# Altium schematic symbol library alex_resistor.SchLib: 130 symbols
Pins are listed as number, name and electrical type; pins without a type are passive.

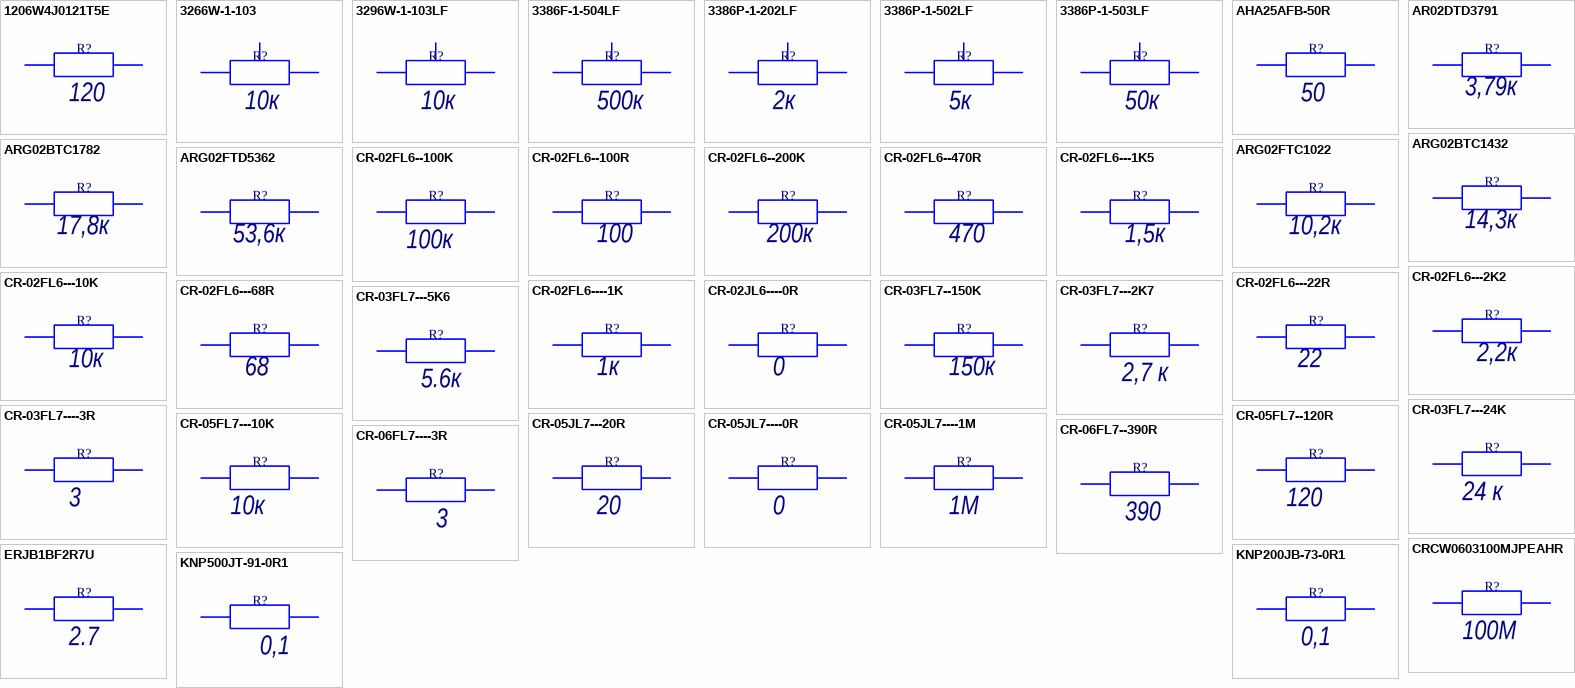
[diagram p0: symbols 1206W4J0121T5E to KNP500JT-91-0R1]

## 1206W4J0121T5E
designator R?, comment value 120  (hidden comment: Резистор 120 Ом ± 0,05% 0,25 Вт 200В -55...155 °C SMD-1206 1206W4J0121T5E "UNIOHM")
footprint R1206 (3216M)
pins: 1, 2

## 3266W-1-103
designator R?, comment value 10к  (hidden comment: Резистор подстроечный выводной 10 кОм ± 1% 12 оборотов 500мВт 3266W-1-103 -55°C...+125°C "Bochen")
footprint R_TRIM_3266_BOCHEN
pins: 1, 2, 3

## 3296W-1-103LF
designator R?, comment value 10к  (hidden comment: Резистор подстроечный выводной 10 кОм ± 1% 500мВт 3296W-1-103LF -55°C...+125°C "Bourns")
footprint R_TRIMM_3296
pins: 1, 2, 3

## 3386F-1-504LF
designator R?, comment value 500к  (hidden comment: Резистор подстроечный выводной 500 кОм ± 1% 500мВт 3386F-1-504LF -55°C...+125°C "Bourns")
footprint R_TRIMM_3386
pins: 1, 2, 3

## 3386P-1-202LF
designator R?, comment value 2к  (hidden comment: Резистор подстроечный выводной 2 кОм ± 1% 500мВт 3386P-1-202LF -55°C...+125°C "Bourns")
footprint R_TRIMM_3386
pins: 1, 2, 3

## 3386P-1-502LF
designator R?, comment value 5к  (hidden comment: Резистор подстроечный выводной 5 кОм ± 1% 500мВт 3386P-1-502LF -55°C...+125°C "Bourns")
footprint R_TRIMM_3386
pins: 1, 2, 3

## 3386P-1-503LF
designator R?, comment value 50к  (hidden comment: Резистор подстроечный выводной 5 кОм ± 1% 500мВт 3386P-1-502LF -55°C...+125°C "Bourns")
Резистор подстроечный выводной 50 кОм ± 1% 500мВт 3386P-1-503LF -55°C...+125°C "Bourns"
footprint R_TRIMM_3386
pins: 1, 2, 3

## AHA25AFB-50R
designator R?, comment value 50  (hidden comment: Резистор 50 Ом ± 1% 25Вт AXIAL AHA25AFB-50R "Yageo")
pins: 1, 2

## AR02DTD3791
designator R?, comment value 3,79к  (hidden comment: Резистор 3,79 кОм±1% 63мВт SMD 0402 AR02DTD3791 "Viking")
Резистор 14,3 кОм±1% 63мВт SMD 0402 ARG02BTC1432 "Viking"
footprint R0402 (1005M)
pins: 1, 2

## ARG02BTC1432
designator R?, comment value 14,3к  (hidden comment: Резистор 14,3 кОм±1% 63мВт SMD 0402 ARG02BTC1432 "Viking")
footprint R0402 (1005M)
pins: 1, 2

## ARG02BTC1782
designator R?, comment value 17,8к  (hidden comment: Резистор 17,8 кОм±1% 63мВт SMD 0402 ARG02BTC1782 "Viking")
footprint R0402 (1005M)
pins: 1, 2

## ARG02FTC1022
designator R?, comment value 10,2к  (hidden comment: Резистор 10,2 кОм±1% 63мВт SMD 0402 ARG02FTC1022 "Viking")
footprint R0402 (1005M)
pins: 1, 2

## ARG02FTD5362
designator R?, comment value 53,6к  (hidden comment: Резистор 53,6 кОм±1% 63мВт SMD 0402 ARG02FTD5362 "Viking")
footprint R0402 (1005M)
pins: 1, 2

## CR-02FL6--100K
designator R?, comment value 100к  (hidden comment: Резистор 100 кОм±1% 63мВт SMD 0402 CR-02FL6--100K "Viking")
footprint R0402 (1005M)
pins: 1, 2

## CR-02FL6--100R
designator R?, comment value 100  (hidden comment: Резистор 100 Ом±1% 63мВт SMD 0402 CR-02FL6--100R "Viking")
footprint R0402 (1005M)
pins: 1, 2

## CR-02FL6--200K
designator R?, comment value 200к  (hidden comment: Резистор 200 кОм±1% 63мВт SMD 0402 CR-02FL6--200K "Viking")
Резистор 200 кОм±1% 63мВт SMD 0402 CR-02FL6--200K "Viking""
footprint R0402 (1005M)
pins: 1, 2

## CR-02FL6--470R
designator R?, comment value 470  (hidden comment: Резистор 470 Ом±1% 63мВт SMD 0402 CR-02FL6--470R "Viking")
footprint R0402 (1005M)
pins: 1, 2

## CR-02FL6---1K5
designator R?, comment value 1,5к  (hidden comment: Резистор 1.5 кОм±1% 63мВт SMD 0402 CR-02FL6---1K5 "Viking")
footprint R0402 (1005M)
pins: 1, 2

## CR-02FL6---2K2
designator R?, comment value 2,2к  (hidden comment: Резистор 2.2 кОм±1% 63мВт SMD 0402 CR-02FL6---2K2 "Viking")
footprint R0402 (1005M)
pins: 1, 2

## CR-02FL6---10K
designator R?, comment value 10к  (hidden comment: Резистор 10 кОм±1% 63мВт SMD 0402 CR-02FL6---10K "Viking")
footprint R0402 (1005M)
pins: 1, 2

## CR-02FL6---22R
designator R?, comment value 22  (hidden comment: Резистор 22 Ом±1% 63мВт SMD 0402 CR-02FL6---22R "Viking")
footprint R0402 (1005M)
pins: 1, 2

## CR-02FL6---68R
designator R?, comment value 68  (hidden comment: Резистор 68 Ом±1% 63мВт SMD 0402 CR-02FL6---68R "Viking")
footprint R0402 (1005M)
pins: 1, 2

## CR-02FL6----1K
designator R?, comment value 1к  (hidden comment: Резистор 1 кОм±1% 63мВт SMD 0402 CR-02FL6----1K "Viking")
footprint R0402 (1005M)
pins: 1, 2

## CR-02JL6----0R
designator R?, comment value 0  (hidden comment: Резистор 0 Ом±1% 63мВт SMD 0402 CR-02JL6----0R "Viking")
footprint R0402 (1005M)
pins: 1, 2

## CR-03FL7--150K
designator R?, comment value 150к  (hidden comment: Резистор 150 кОм±1% 63мВт SMD 0402 CR-03FL7--150K "Viking")
footprint R0402 (1005M)
pins: 1, 2

## CR-03FL7---2K7
designator R?, comment value 2,7 к  (hidden comment: Резистор 2.7 кОм ± 1% 100 мВт SMD 0603  CR-03FL7---2K7 "Viking")
footprint LD0603
pins: 1, 2

## CR-03FL7---5K6
designator R?, comment value 5.6к  (hidden comment: Резистор 5.6 кОм ± 1% 100мВт SMD 0603  CR-03FL7---5K6 "Viking")
footprint R0603 (1608M)
pins: 1, 2

## CR-03FL7---24K
designator R?, comment value 24 к  (hidden comment: Резистор 24 кОм ± 1% 100 мВт SMD 0603 CR-03FL7---24K "Viking")
footprint R0603 (1608M)
pins: 1, 2

## CR-03FL7----3R
designator R?, comment value 3  (hidden comment: Резистор 3 Ом ± 1% 100мВт 50В SMD 0603 -55...155°C CR-03FL7----3R "Viking")
footprint R0805 (2012M)
pins: 1, 2

## CR-05FL7--120R
designator R?, comment value 120  (hidden comment: Резистор 120 Ом ± 1% 125мВт SMD 0805  CR-05FL7--120R "Viking")
footprint R0805 (2012M)
pins: 1, 2

## CR-05FL7---10K
designator R?, comment value 10к  (hidden comment: Резистор 10 кОм ± 1% 125мВт SMD 0805 CR-05FL7---10K "Viking")
footprint R0805 (2012M)
pins: 1, 2

## CR-05JL7---20R
designator R?, comment value 20  (hidden comment: Резистор 20 Ом ± 1% 125мВт SMD 0805  CR-05JL7---20R "Viking")
footprint R0805 (2012M)
pins: 1, 2

## CR-05JL7----0R
designator R?, comment value 0  (hidden comment: Резистор 0 Ом ± 1% 125мВт SMD 0805 CR-05JL7----0R "Viking")
footprint R0805 (2012M)
pins: 1, 2

## CR-05JL7----1M
designator R?, comment value 1M  (hidden comment: Резистор 1 МОм ± 1% 125мВт 150В SMD 0805 -55...155°C CR-05JL7----1M "Viking")
footprint R0805 (2012M)
pins: 1, 2

## CR-06FL7--390R
designator R?, comment value 390  (hidden comment: Резистор 390 Ом ± 1% 250мВт SMD 1206  CR-06FL7--390R "Viking")
footprint R1206 (3216M)
pins: 1, 2

## CR-06FL7----3R
designator R?, comment value 3  (hidden comment: Резистор 3 Ом ± 1% 250мВт SMD 1206 CR-06FL7----3R "Viking")
footprint R1206 (3216M)
pins: 1, 2

## CRCW0603100MJPEAHR
designator R?, comment value 100М  (hidden comment: Резистор 100 МОм ± 1% 100мВт SMD 0603 CRCW0603100MJPEAHR "VISHAY")
footprint R0603 (1608M)
pins: 1, 2

## ERJB1BF2R7U
designator R?, comment value 2.7  (hidden comment: Резистор 2,7Ом ± 1% 2Вт -55...155 °C SMD-1020 ERJB1BF2R7U "Panasonic")
footprint SMD 1020 Panasonic
pins: 1, 2

## KNP200JB-73-0R1
designator R?, comment value 0,1  (hidden comment: Резистор 0,1Ом ± 1% 2Вт AXIAL 15мм  KNP200JB-73-0R1 "Yageo")
footprint AXIAL R L=15
pins: 1, 2

## KNP500JT-91-0R1
designator R?, comment value 0,1  (hidden comment: Резистор 0,1Ом ± 1% 5Вт AXIAL 25мм  KNP500JT-91-0R1 "Yageo")
footprint AXIAL R L=25
pins: 1, 2

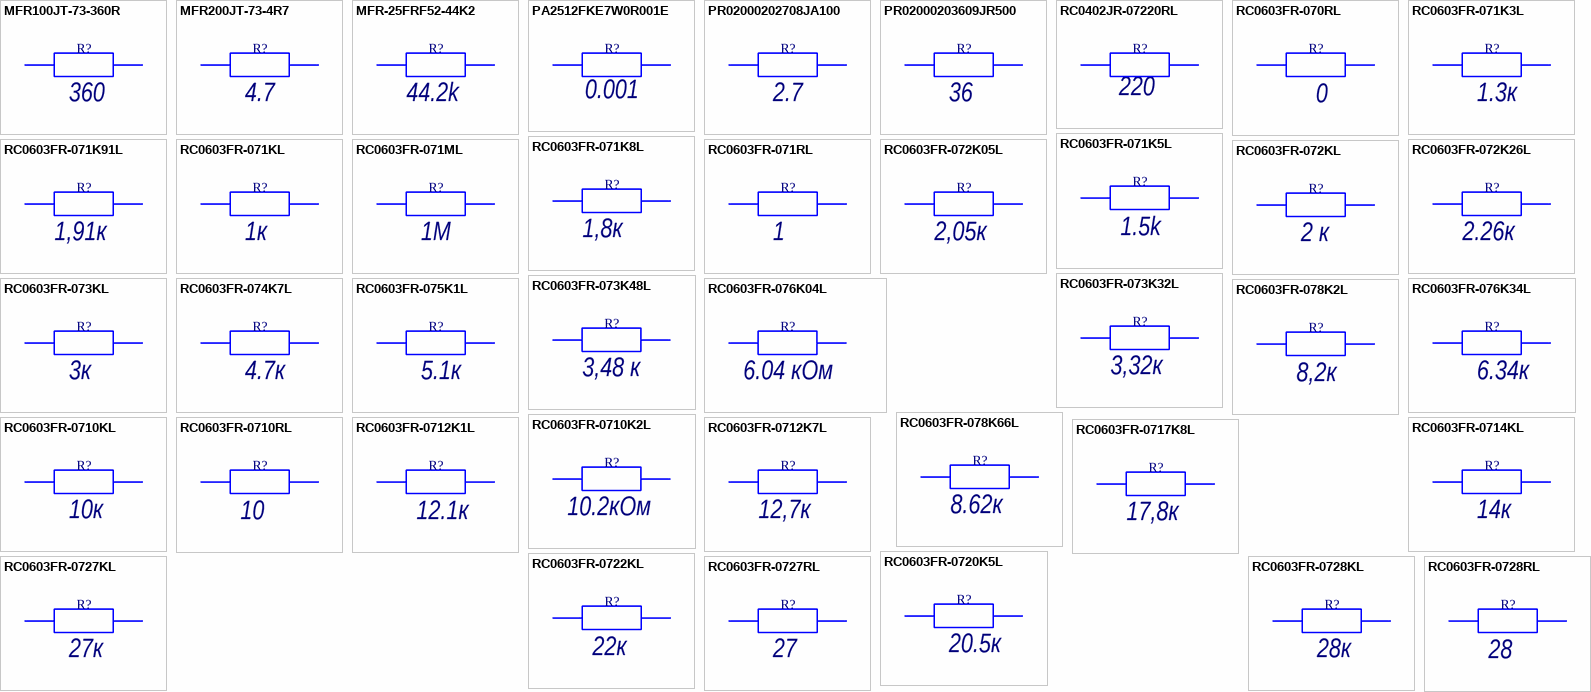
[diagram p1: symbols MFR100JT-73-360R to RC0603FR-0728RL]

## MFR100JT-73-360R
designator R?, comment value 360  (hidden comment: Резистор 360 Ом ± 5% 1Вт AXIAL MFR100JT-73-360R "Yageo")
footprint AXIAL R L=12
pins: 1, 2

## MFR200JT-73-4R7
designator R?, comment value 4.7  (hidden comment: Резистор 4.7 Ом ± 5% 2Вт AXIAL MFR200JT-73-4R7 "Yageo")
footprint AXIAL R L=12
pins: 1, 2

## MFR-25FRF52-44K2
designator R?, comment value 44.2k  (hidden comment: Резистор 44.2kОм ± 1% 0.125Вт AXIAL 6.3мм  MFR-25FRF52-44K2 "Yageo")
footprint AXIAL R L=6.3
pins: 1, 2

## PA2512FKE7W0R001E
designator R?, comment value 0.001  (hidden comment: Резистор 0.001 Ом ± 1% 2 Вт SMD 2512 PA2512FKE7W0R001E "Yageo")
footprint SMD 2512 Res
pins: 1, 2

## PR02000202708JA100
designator R?, comment value 2.7  (hidden comment: Резистор 2.7 Ом ± 5% 2Вт AXIAL PR02000202708JA100 "Vishay")
footprint AXIAL R L=12
pins: 1, 2

## PR02000203609JR500
designator R?, comment value 36  (hidden comment: Резистор 36 Ом ± 5% 2Вт AXIAL PR02000203609JR500 "Vishay")
footprint R Axial L=17.8
pins: 1, 2

## RC0402JR-07220RL
designator R?, comment value 220  (hidden comment: Резистор 220 Ом±1% 63мВт SMD 0402 RC0402JR-07220RL "Yageo")
footprint R0402 (1005M)
pins: 1, 2

## RC0603FR-070RL
designator R?, comment value 0  (hidden comment: Резистор 0 Ом ± 1% 100мВт SMD 0603 RC0603FR-070RL "Yageo")
footprint R0603 (1608M)
pins: 1, 2

## RC0603FR-071K3L
designator R?, comment value 1.3к  (hidden comment: Резистор 1.3 кОм ± 1% 100мВт SMD 0603 RC0603FR-071K3L "Yageo")
footprint R0603 (1608M)
pins: 1, 2

## RC0603FR-071K5L
designator R?, comment value 1.5k  (hidden comment: Резистор 1.5 кОм ± 1% 100мВт SMD 0603 RC0603FR-0733RL "Yageo")
footprint R0603 (1608M)
pins: 1, 2

## RC0603FR-071K8L
designator R?, comment value 1,8к  (hidden comment: Резистор 1,8 кОм ± 1% 100мВт SMD 0603 RC0603FR-071K8L "Yageo")
footprint R0603 (1608M)
pins: 1, 2

## RC0603FR-071K91L
designator R?, comment value 1,91к  (hidden comment: Резистор 1.91 кОм ± 1% 100мВт SMD 0603 RC0603FR-071K91L "Yageo")
footprint R0603 (1608M)
pins: 1, 2

## RC0603FR-071KL
designator R?, comment value 1к  (hidden comment: Резистор 1 кОм ± 1% 100мВт SMD 0603 RC0603FR-071KL "Yageo")
footprint R0603 (1608M)
pins: 1, 2

## RC0603FR-071ML
designator R?, comment value 1M  (hidden comment: Резистор 1 МОм ± 1% 0.1Вт SMD 0603 RC0603FR-071ML "Yageo")
footprint R0603 (1608M)
pins: 1, 2

## RC0603FR-071RL
designator R?, comment value 1  (hidden comment: Резистор 1 Ом ± 1% 100мВт SMD 0603 RC0603FR-071RL "Yageo")
footprint R0603 (1608M)
pins: 1, 2

## RC0603FR-072K05L
designator R?, comment value 2,05к  (hidden comment: Резистор 2.05 кОм ± 1% 100мВт SMD 0603 RC0603FR-072K05L "Yageo")
footprint R0603 (1608M)
pins: 1, 2

## RC0603FR-072K26L
designator R?, comment value 2.26к  (hidden comment: Резистор 2.26 кОм ± 1% 100мВт SMD 0603  RC0603FR-072K26L "Yageo")
footprint R0603 (1608M)
pins: 1, 2

## RC0603FR-072KL
designator R?, comment value 2 к  (hidden comment: Резистор 2 кОм ± 1% 100 мВт SMD 0603 RC0603FR-072KL "Yageo")
footprint R0603 (1608M)
pins: 1, 2

## RC0603FR-073K32L
designator R?, comment value 3,32к  (hidden comment: Резистор 3.32 кОм ± 1% 100мВт SMD 0603 RC0603FR-073K32L "Yageo")
footprint R0603 (1608M)
pins: 1, 2

## RC0603FR-073K48L
designator R?, comment value 3,48 к  (hidden comment: Резистор 3.48 кОм ± 1% 100 мВт SMD 0603 RC0603FR-073K48L "Yageo")
footprint R0603 (1608M)
pins: 1, 2

## RC0603FR-073KL
designator R?, comment value 3к  (hidden comment: Резистор 3 кОм ± 1% 100мВт SMD 0603 RC0603FR-073KL "Yageo")
footprint R0603 (1608M)
pins: 1, 2

## RC0603FR-074K7L
designator R?, comment value 4.7к  (hidden comment: Резистор 4.7 кОм ± 1% 100мВт SMD 0603 RC0603FR-074K7L "Yageo")
footprint R0603 (1608M)
pins: 1, 2

## RC0603FR-075K1L
designator R?, comment value 5.1к  (hidden comment: Резистор 5.1 кОм ± 1% 100мВт SMD 0603 RC0603FR-075K1L "Yageo")
footprint R0603 (1608M)
pins: 1, 2

## RC0603FR-076K04L
designator R?, comment value 6.04 кОм  (hidden comment: Резистор 6.04 кОм ± 1% 125мВт SMD 0805  RC0603FR-076K04L "Yageo")
footprint R0805 (2012M)
pins: 1, 2

## RC0603FR-076K34L
designator R?, comment value 6.34к  (hidden comment: Резистор 6.34 кОм ± 1% 100мВт SMD 0603  RC0603FR-076K34L "Yageo")
footprint R0603 (1608M)
pins: 1, 2

## RC0603FR-078K2L
designator R?, comment value 8,2к  (hidden comment: Резистор 8,2 кОм ± 1% 100мВт SMD 0603 RC0603FR-078K2L "Yageo")
footprint R0603 (1608M)
pins: 1, 2

## RC0603FR-078K66L
designator R?, comment value 8.62к  (hidden comment: Резистор 8.62 кОм ± 1% 100мВт SMD 0603 RC0603FR-078K66L "Yageo")
footprint R0603 (1608M)
pins: 1, 2

## RC0603FR-0710K2L
designator R?, comment value 10.2кОм  (hidden comment: Резистор 10,2 кОм ± 1% 100мВт SMD 0603 RC0603FR-0710K2L "Yageo")
footprint R0603 (1608M)
pins: 1, 2

## RC0603FR-0710KL
designator R?, comment value 10к  (hidden comment: Резистор 10 кОм ± 1% 100мВт SMD 0603 RC0603FR-0710KL "Yageo")
footprint R0603 (1608M)
pins: 1, 2

## RC0603FR-0710RL
designator R?, comment value 10  (hidden comment: Резистор 10 Ом ± 1% 100мВт SMD 0603 RC0603FR-0710RL "Yageo")
footprint R0603 (1608M)
pins: 1, 2

## RC0603FR-0712K1L
designator R?, comment value 12.1к  (hidden comment: Резистор 12.1 кОм ± 1% 100мВт SMD 0603 RC0603FR-0712K1L "Yageo")
footprint R0603 (1608M)
pins: 1, 2

## RC0603FR-0712K7L
designator R?, comment value 12,7к  (hidden comment: Резистор 12.7 кОм ± 1% 100мВт SMD 0603 RC0603FR-0712K7L "Yageo")
footprint R0603 (1608M)
pins: 1, 2

## RC0603FR-0714KL
designator R?, comment value 14к  (hidden comment: Резистор 14 кОм ± 1% 100мВт SMD 0603 RC0603FR-0714KL "Yageo")
footprint R0603 (1608M)
pins: 1, 2

## RC0603FR-0717K8L
designator R?, comment value 17,8к  (hidden comment: Резистор 17.8 кОм ± 1% 100мВт SMD 0603 RC0603FR-0717K8L "Yageo")
footprint R0603 (1608M)
pins: 1, 2

## RC0603FR-0720K5L
designator R?, comment value 20.5к  (hidden comment: Резистор 20.5 кОм ± 1% 100мВт SMD 0603 RC0603FR-0720K5L "Yageo")
footprint R0603 (1608M)
pins: 1, 2

## RC0603FR-0722KL
designator R?, comment value 22к  (hidden comment: Резистор 22 кОм ± 1% 100мВт SMD 0603 RC0603FR-0722KL "Yageo")
footprint R0603 (1608M)
pins: 1, 2

## RC0603FR-0727KL
designator R?, comment value 27к  (hidden comment: Резистор 27 кОм ± 1% 100мВт SMD 0603 RC0603FR-0727KL "Yageo")
footprint R0603 (1608M)
pins: 1, 2

## RC0603FR-0727RL
designator R?, comment value 27  (hidden comment: Резистор 27 Ом ± 1% 100мВт SMD 0603 RC0603FR-0727RL "Yageo")
footprint R0603 (1608M)
pins: 1, 2

## RC0603FR-0728KL
designator R?, comment value 28к  (hidden comment: Резистор 28.0 кОм ± 1% 100мВт SMD 0603  RC0603FR-0728KL "Yageo")
footprint R0603 (1608M)
pins: 1, 2

## RC0603FR-0728RL
designator R?, comment value 28  (hidden comment: Резистор 28 Ом ± 1% 100мВт SMD 0603 RC0603FR-0728RL "Yageo")
footprint R0603 (1608M)
pins: 1, 2

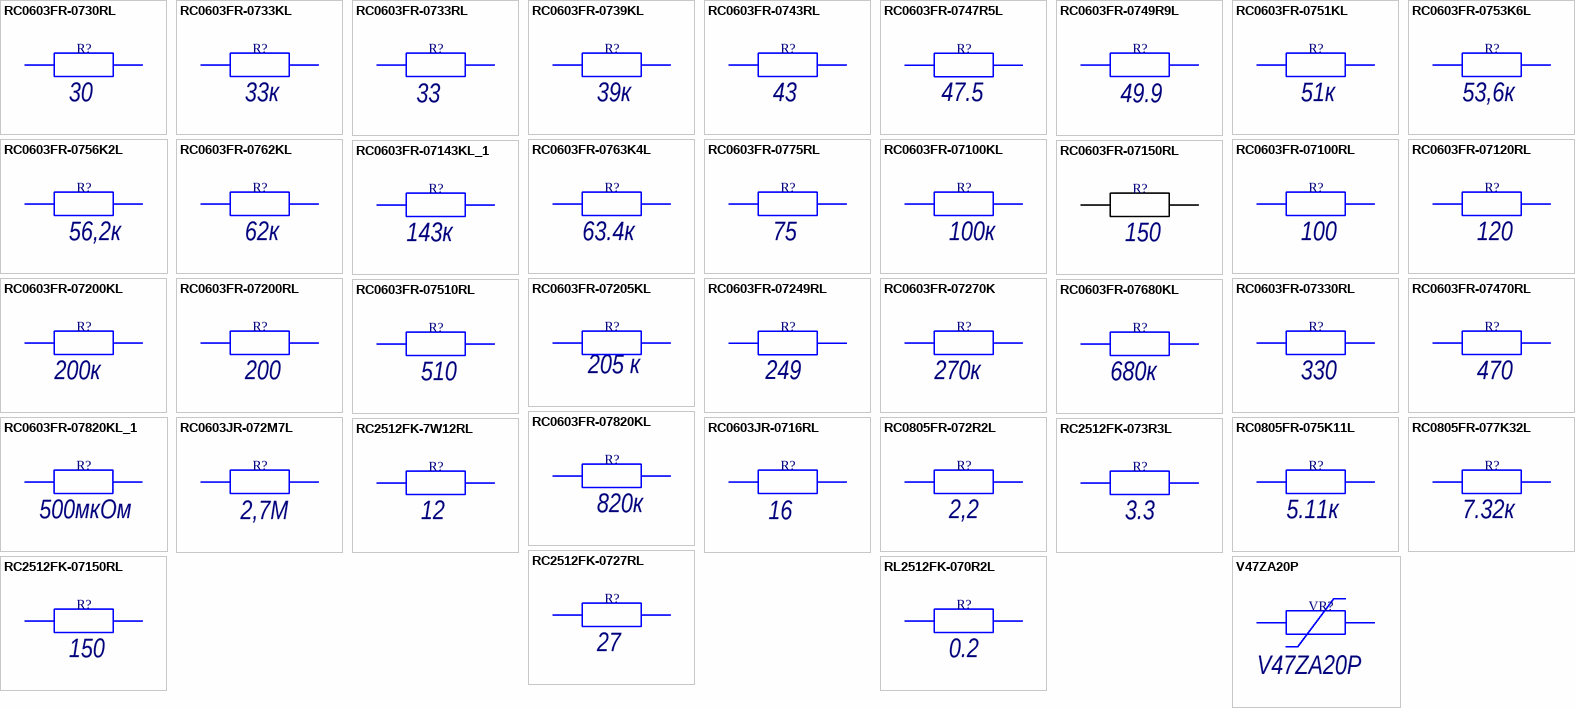
[diagram p2: symbols RC0603FR-0730RL to V47ZA20P]

## RC0603FR-0730RL
designator R?, comment value 30  (hidden comment: Резистор 30 Ом ± 1% 100мВт SMD 0603 RC0603FR-0730RL "Yageo")
footprint R0603 (1608M)
pins: 1, 2

## RC0603FR-0733KL
designator R?, comment value 33к  (hidden comment: Резистор 33 кОм ± 1% 100мВт SMD 0603 RC0603FR-0733KL "Yageo")
footprint R0603 (1608M)
pins: 1, 2

## RC0603FR-0733RL
designator R?, comment value 33  (hidden comment: Резистор 33 Ом ± 1% 100мВт SMD 0603 RC0603FR-0733RL "Yageo")
footprint R0603 (1608M)
pins: 1, 2

## RC0603FR-0739KL
designator R?, comment value 39к  (hidden comment: Резистор 39 кОм ± 1% 100мВт SMD 0603 RC0603FR-0739KL "Yageo")
footprint R0603 (1608M)
pins: 1, 2

## RC0603FR-0743RL
designator R?, comment value 43  (hidden comment: Резистор 43 Ом ± 1% 100мВт SMD 0603 RC0603FR-0743RL "Yageo")
footprint R0603 (1608M)
pins: 1, 2

## RC0603FR-0747R5L
designator R?, comment value 47.5  (hidden comment: Резистор 47.5 Ом ± 1% 0.1Вт SMD 0603 RC0603FR-0747R5L "Yageo")
footprint R0603 (1608M)
pins: 1, 2

## RC0603FR-0749R9L
designator R?, comment value 49.9  (hidden comment: Резистор 49.9 Ом ± 1% 100мВт SMD 0603 RC0603FR-0749R9L "Yageo")
footprint R0603 (1608M)
pins: 1, 2

## RC0603FR-0751KL
designator R?, comment value 51к  (hidden comment: Резистор 51 кОм ± 1% 100мВт SMD 0603 RC0603FR-0751KL "Yageo")
footprint R0603 (1608M)
pins: 1, 2

## RC0603FR-0753K6L
designator R?, comment value 53,6к  (hidden comment: Резистор 53,6 кОм ± 1% 100мВт SMD 0603 RC0603FR-0753K6L "Yageo")
footprint R0603 (1608M)
pins: 1, 2

## RC0603FR-0756K2L
designator R?, comment value 56,2к  (hidden comment: Резистор 56,2 кОм ± 1% 100мВт SMD 0603 RC0603FR-0756K2L "Yageo")
footprint R0603 (1608M)
pins: 1, 2

## RC0603FR-0762KL
designator R?, comment value 62к  (hidden comment: Резистор 62 кОм ± 1% 100мВт SMD 0603 RC0603FR-0762KL "Yageo")
footprint R0603 (1608M)
pins: 1, 2

## RC0603FR-0763K4L
designator R?, comment value 63.4к  (hidden comment: Резистор 63.4 кОм ± 1% 100мВт SMD 0603   RC0603FR-0763K4L "Yageo")
footprint R0603 (1608M)
pins: 1, 2

## RC0603FR-0775RL
designator R?, comment value 75  (hidden comment: Резистор 75 Ом ± 1% 100мВт SMD 0603 RC0603FR-0775RL "Yageo")
footprint R0603 (1608M)
pins: 1, 2

## RC0603FR-07100KL
designator R?, comment value 100к  (hidden comment: Резистор 100 кОм ± 1% 100мВт SMD 0603 RC0603FR-07100KL "Yageo")
footprint R0603 (1608M)
pins: 1, 2

## RC0603FR-07100RL
designator R?, comment value 100  (hidden comment: Резистор 100 Ом ± 1% 100мВт SMD 0603 RC0603FR-07100RL "Yageo")
footprint R0603 (1608M)
pins: 1, 2

## RC0603FR-07120RL
designator R?, comment value 120  (hidden comment: Резистор 120 Ом ± 1% 100мВт SMD 0603 RC0603FR-07120RL "Yageo")
footprint R0603 (1608M)
pins: 1, 2

## RC0603FR-07143KL_1
designator R?, comment value 143к  (hidden comment: Резистор 143 кОм ± 1% 100мВт SMD 0603 RC0603FR-07143KL "Yageo")
footprint R0603 (1608M)
pins: 1, 2

## RC0603FR-07150RL
designator R?, comment value 150  (hidden comment: Резистор 150 Ом ± 1% 100мВт SMD 0603 RC0603FR-07150RL "Yageo")
footprint R0603 (1608M)
pins: 1, 2

## RC0603FR-07200KL
designator R?, comment value 200к  (hidden comment: Резистор 200 кОм ± 1% 100мВт SMD 0603 RC0603FR-07200KL "Yageo")
footprint R0603 (1608M)
pins: 1, 2

## RC0603FR-07200RL
designator R?, comment value 200  (hidden comment: Резистор 200 Ом ± 1% 100мВт SMD 0603 RC0603FR-07200RL "Yageo")
footprint R0603 (1608M)
pins: 1, 2

## RC0603FR-07205KL
designator R?, comment value 205 к  (hidden comment: Резистор 205 кОм ± 1% 100 мВт SMD 0603 RC0603FR-07205KL "Yageo")
footprint R0603 (1608M)
pins: 1, 2

## RC0603FR-07249RL
designator R?, comment value 249  (hidden comment: Резистор 249 Ом ± 1% 0.1Вт SMD 0603 RC0603FR-07249RL "Yageo")
footprint R0603 (1608M)
pins: 1, 2

## RC0603FR-07270K
designator R?, comment value 270к  (hidden comment: Резистор 270 кОм ± 1% 100мВт SMD 0603 RC0603FR-07270K "Yageo")
footprint R0603 (1608M)
pins: 1, 2

## RC0603FR-07330RL
designator R?, comment value 330  (hidden comment: Резистор 330 Ом ± 1% 100мВт SMD 0603 RC0603FR-07330RL "Yageo")
footprint R0603 (1608M)
pins: 1, 2

## RC0603FR-07470RL
designator R?, comment value 470  (hidden comment: Резистор 470 Ом ± 1% 100мВт SMD 0603 RC0603FR-07470RL "Yageo")
footprint R0603 (1608M)
pins: 1, 2

## RC0603FR-07510RL
designator R?, comment value 510  (hidden comment: Резистор 510 Ом ± 1% 100мВт SMD 0603 RC0603FR-07510RL "Yageo")
footprint R0603 (1608M)
pins: 1, 2

## RC0603FR-07680KL
designator R?, comment value 680к  (hidden comment: Резистор 680 кОм ± 1% 100мВт SMD 0603 RC0603FR-0710KL "Yageo")
footprint R0603 (1608M)
pins: 1, 2

## RC0603FR-07820KL
designator R?, comment value 820к  (hidden comment: Резистор 820 кОм ± 1% 100мВт SMD 0603 RC0603FR-07820KL "Yageo")
footprint R0603 (1608M)
pins: 1, 2

## RC0603FR-07820KL_1
designator R?, comment value 500мкОм  (hidden comment: Резистор токоизмерительный 500 мкОм ± 1% 10Вт SMD-5931 -55...170° LRMAP5930D-R0005FT "TT Electronics PLC")
footprint SMD 5931 (Chip Resistor, 2-Leads, Body 15,00x7,75mm, IPC Low Density)
pins: 1, 2

## RC0603JR-072M7L
designator R?, comment value 2,7M  (hidden comment: Резистор 2,7 МОм ± 1% 100мВт SMD 0603 RC0603JR-072M7L "Yageo")
footprint R0603 (1608M)
pins: 1, 2

## RC0603JR-0716RL
designator R?, comment value 16  (hidden comment: Резистор 16 Ом ± 1% 100мВт SMD 0603 RC0603JR-0716RL "Yageo")
footprint R0603 (1608M)
pins: 1, 2

## RC0805FR-072R2L
designator R?, comment value 2,2  (hidden comment: Резистор 2,2 Ом ± 1% 125мВт SMD 0805  RC0805FR-072R2L "Yageo")
footprint R0805 (2012M)
pins: 1, 2

## RC0805FR-075K11L
designator R?, comment value 5.11к  (hidden comment: Резистор 5.11 кОм ± 1% 125мВт SMD 0805  RC0805FR-075K11L "Yageo")
footprint R0805 (2012M)
pins: 1, 2

## RC0805FR-077K32L
designator R?, comment value 7.32к  (hidden comment: Резистор 7.32 кОм ± 1% 125мВт SMD 0805  RC0805FR-077K32L "Yageo")
footprint R0805 (2012M)
pins: 1, 2

## RC2512FK-7W12RL
designator R?, comment value 12  (hidden comment: Резистор 12 Ом ± 1% 2Вт SMD 2512 RC2512FK-7W12RL "Yageo")
footprint R2512 (6432M)
pins: 1, 2

## RC2512FK-073R3L
designator R?, comment value 3.3  (hidden comment: Резистор 3.3 Ом ± 1% 1Вт SMD 2512 RC2512FK-073R3L "Yageo")
footprint SMD 2512
pins: 1, 2

## RC2512FK-0727RL
designator R?, comment value 27  (hidden comment: Резистор 27 Ом ± 1% 1Вт SMD 2512 RC2512FK-0727RL "Yageo")
footprint R 2512
pins: 1, 2

## RC2512FK-07150RL
designator R?, comment value 150  (hidden comment: Резистор 150 Ом ± 1% 1Вт SMD 2512 RC2512FK-07150RL "Yageo")
footprint R 2512
pins: 1, 2

## RL2512FK-070R2L
designator R?, comment value 0.2  (hidden comment: Резистор 0.2 Ом ± 1% 1Вт SMD 2512 RL2512FK-070R2L "Yageo")
footprint R2512 (6432M)
pins: 1, 2

## V47ZA20P
designator VR?, comment value V47ZA20P  (hidden comment: Варистор DC-38В, AC-30В 2кА 23Дж  AXIAL V47ZA20P "Littelfuse")
footprint Varistor 20mm
pins: 1, 2

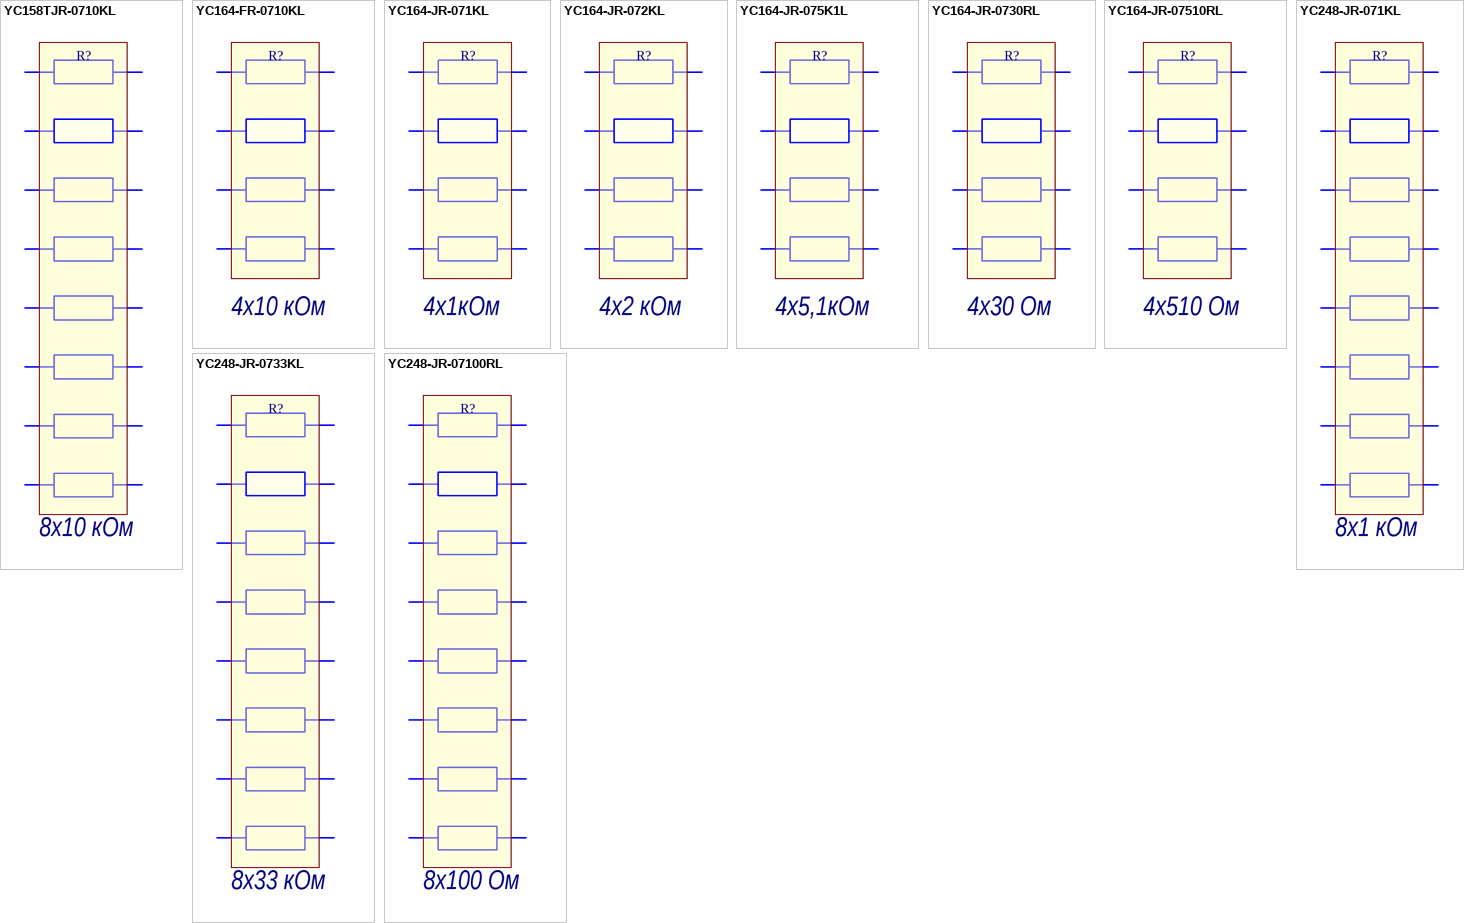
[diagram p3: symbols YC158TJR-0710KL to YC248-JR-07100RL]

## YC158TJR-0710KL
designator R?, comment value 8х10 кОм  (hidden comment: Сборка резистивная 10 кОм ± 5% 8 резисторов 62,5мВт SMD YC158TJR-0710KL "Yageo")
footprint сборка R 8 штук
pins: 1, 2, 3, 4, 5, 6, 7, 8, 9, 10, 11, 12, 13, 14, 15, 16

## YC164-FR-0710KL
designator R?, comment value 4х10 кОм  (hidden comment: Сборка резистивная 10 кОм ± 1% 4 резисторов 62,5мВт SMD YC164-FR-0710KL "Yageo")
footprint сборка К 4шт YC164 (Chip Array, ConvexS, 8-Leads, Pitch 0,80mm,  Body 3,20x1,60mm,  IPC Low Density)
pins: 1, 2, 3, 4, 5, 6, 7, 8 2

## YC164-JR-071KL
designator R?, comment value 4х1кОм  (hidden comment: Сборка резистивная 1 кОм ± 5% 4 резистора 62,5мВт SMD YC164-JR-071KL "Yageo")
footprint сборка К 4шт YC164 (Chip Array, ConvexS, 8-Leads, Pitch 0,80mm,  Body 3,20x1,60mm,  IPC Low Density)
pins: 1, 2, 3, 4, 5, 6, 7, 8 2

## YC164-JR-072KL
designator R?, comment value 4х2 кОм  (hidden comment: Сборка резистивная 2 кОм ± 5% 4 резисторов 62,5мВт SMD YC164-JR-072KL "Yageo")
footprint сборка К 4шт YC164 (Chip Array, ConvexS, 8-Leads, Pitch 0,80mm,  Body 3,20x1,60mm,  IPC Low Density)
pins: 1, 2, 3, 4, 5, 6, 7, 8 2

## YC164-JR-075K1L
designator R?, comment value 4х5,1кОм  (hidden comment: Сборка резистивная 5.1 кОм ± 5% 4 резистора 62,5мВт SMD YC164-JR-075K1L "Yageo")
footprint сборка К 4шт YC164 (Chip Array, ConvexS, 8-Leads, Pitch 0,80mm,  Body 3,20x1,60mm,  IPC Low Density)
pins: 1, 2, 3, 4, 5, 6, 7, 8 2

## YC164-JR-0730RL
designator R?, comment value 4х30 Ом  (hidden comment: Сборка резистивная 30 Ом ± 5% 4 резисторов 62,5мВт SMD YC164-JR-0730RL "Yageo")
footprint сборка К 4шт YC164 (Chip Array, ConvexS, 8-Leads, Pitch 0,80mm,  Body 3,20x1,60mm,  IPC Low Density)
pins: 1, 2, 3, 4, 5, 6, 7, 8 2

## YC164-JR-07510RL
designator R?, comment value 4х510 Ом  (hidden comment: Сборка резистивная 510 Ом ± 5% 4 резисторов 62,5мВт SMD YC164-JR-07510RL "Yageo")
footprint сборка К 4шт YC164 (Chip Array, ConvexS, 8-Leads, Pitch 0,80mm,  Body 3,20x1,60mm,  IPC Low Density)
pins: 1, 2, 3, 4, 5, 6, 7, 8 2

## YC248-JR-071KL
designator R?, comment value 8х1 кОм  (hidden comment: Сборка резистивная 1 кОм ± 5% 8 резисторов 62,5мВт SMD YC248-JR-071KL "Yageo")
footprint сборка R 8 штук
pins: 1, 2, 3, 4, 5, 6, 7, 8, 9, 10, 11, 12, 13, 14, 15, 16

## YC248-JR-0733KL
designator R?, comment value 8х33 кОм  (hidden comment: Сборка резистивная 33 кОм ± 5% 8 резисторов 62,5мВт SMD YC248-JR-0733KL "Yageo")
footprint сборка R 8 штук
pins: 1, 2, 3, 4, 5, 6, 7, 8, 9, 10, 11, 12, 13, 14, 15, 16

## YC248-JR-07100RL
designator R?, comment value 8х100 Ом  (hidden comment: Сборка резистивная 100 Ом ± 5% 8 резисторов 62,5мВт SMD YC248-JR-07100RL "Yageo")
footprint сборка R 8 штук
pins: 1, 2, 3, 4, 5, 6, 7, 8, 9, 10, 11, 12, 13, 14, 15, 16